# Altium footprint library ti_dgs.PcbLib: 1 footprints
Each footprint in its own frame and in the unit in brackets; x right, y up, seen from the top. Pads: shape width x height; smd on the part's side, far side on the other; paste and mask are expansions set on the pad; w line width, h text height; cw(c..) or ccw(c..) is an arc to the next point about the centre after c.
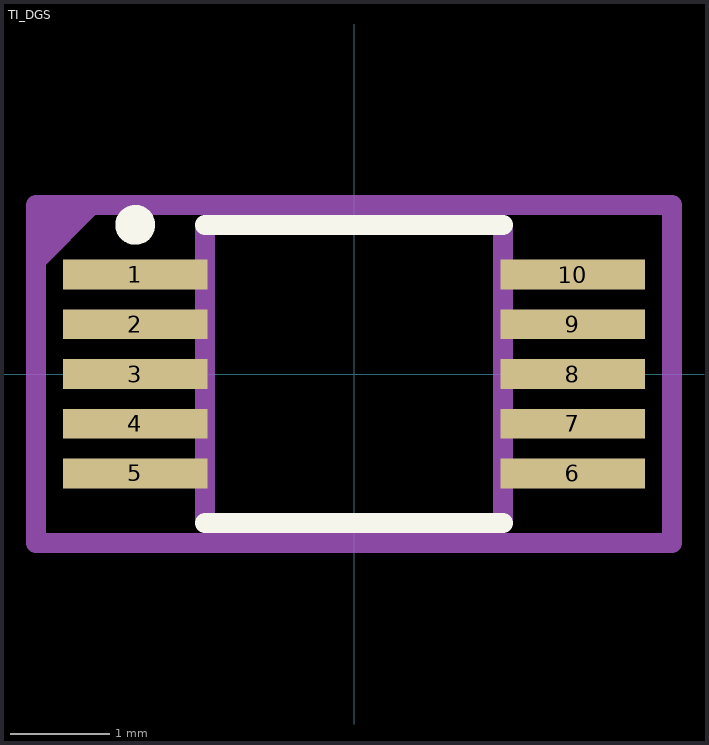
[diagram p0: the footprint, top view; thin cyan lines are the x and y axes]

## TI_DGS [mm]
height 1.1
pads (10):
  rect 1.45x0.3 smd: 1(-2.2,1) 2(-2.2,0.5) 3(-2.2,0) 4(-2.2,-0.5) 5(-2.2,-1) 6(2.2,-1) 7(2.2,-0.5) 8(2.2,0) 9(2.2,0.5) 10(2.2,1)
Top Overlay:
  circle w0.2: c-2.2,1.5 r0.1
  lines w0.2: -1.5,-1.5 1.5,-1.5 ; -1.5,1.5 1.5,1.5
Top 3D Body:
  lines w0.2: -1.5,-1.498 -1.5,1.502 1.5,1.502 1.5,-1.498 -1.5,-1.498
Top Courtyard:
  region: -3.2,1.7 -2.5,1.7 -3.2,1
  lines w0.2: -3.2,-1.7 -3.2,1.7 3.2,1.7 3.2,-1.7 -3.2,-1.7
Top Designator (Mech17):
  text ".Designator" at -1.35,-0.15 h0.6
3D body "DGS0010A.stp": height 1.11, standoff 0.01, extent -2.432,-1.498 2.493,1.502